# EAGLE library part TPS6103X* (library DAC)
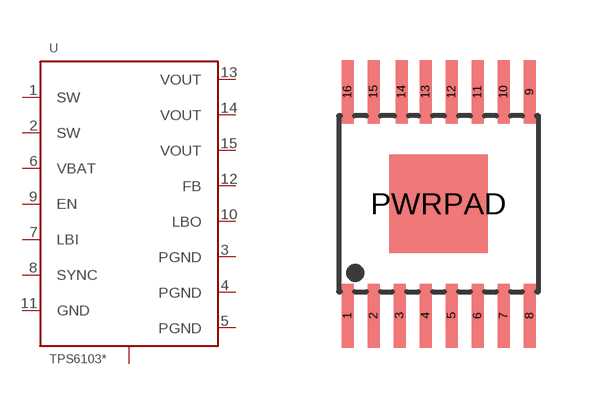
[diagram p8: symbol with the pads of HTSSOP16; footprint HTSSOP16]

Designator prefix U

## TPS6103X  [HTSSOP16]
1  SW  in
2  SW  in
3  PGND  sup
4  PGND  sup
5  PGND  sup
6  VBAT  pwr
7  LBI  in
8  SYNC  in
9  EN  in
10  LBO  out
11  GND  sup
12  FB  in
13  VOUT  out
14  VOUT  out
15  VOUT  out
PWRPAD  P$1  sup

## Footprint HTSSOP16 (pad centres in mm)
smd 0.3 x 1.6: 1 -2.275,-2.8; 2 -1.625,-2.8; 3 -0.975,-2.8; 4 -0.325,-2.8; 5 0.325,-2.8; 6 0.975,-2.8; 7 1.625,-2.8; 8 2.275,-2.8; 9 2.275,2.8; 10 1.625,2.8; 11 0.975,2.8; 12 0.325,2.8; 13 -0.325,2.8; 14 -0.925,2.8; 15 -1.625,2.8; 16 -2.275,2.8
smd 2.46 x 2.46: PWRPAD 0,0